# Altium schematic symbol library Molex-PB-8.SchLib: 1 symbol
Pins are listed as number, name and electrical type; pins without a type are passive.

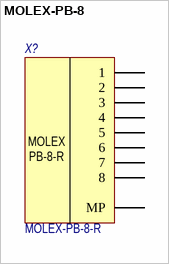
[diagram p0: symbol MOLEX-PB-8]

## MOLEX-PB-8
designator X?  Наименование: MOLEX-PB-8-R  (hidden comment: MOLEX-PB-8)
MOLEX PicoBlade 8-pin; Назначение: MOLEX PicoBlade 8-pin to board; Потребление, Вт: 0,001
footprint MOLEX-PB-8-V
footprint MOLEX-PB-8-R
footprint MOLEX-PB-8-R
footprint MOLEX-PB-8-R
pins: 1, 2, 3, 4, 5, 6, 7, 8, MP
text: MOLEX / PB-8-R